# EAGLE library part LMJ1998824110DL1T39J (library Amphenol_LMJ1998824110DL1T39J)
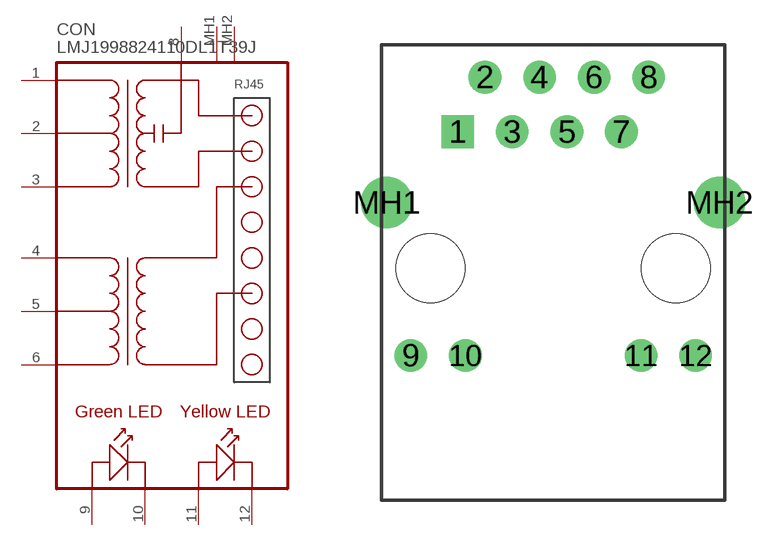
[diagram p0: symbol with the pads of LMJ1998824110DL1T39J; footprint LMJ1998824110DL1T39J]

Designator prefix CON

## LMJ1998824110DL1T39J  [LMJ1998824110DL1T39J]
1  1
2  2
3  3
4  4
5  5
6  6
8  8
9  LED1_A
10  LED1_K
11  LED2_A
12  LED2_K
MH1  14
MH2  15

## Footprint LMJ1998824110DL1T39J (pad centres in mm)
drill 0.9 pad 1.524 square: 1 -4.445,6.35
drill 0.9 pad 1.524: 2 -3.175,8.89; 3 -1.905,6.35; 4 -0.635,8.89; 5 0.635,6.35; 6 1.905,8.89; 7 3.175,6.35; 8 4.445,8.89
drill 0.813 pad 1.524: 9 -6.63,-4.06; 10 -4.09,-4.06; 11 4.09,-4.06; 12 6.63,-4.06
drill 1.6 pad 2.159: MH1 -7.75,3.05; MH2 7.75,3.05
hole 3.2 at -5.715,0
hole 3.2 at 5.715,0